# EAGLE library part FEATHERM0_LORA (library brett)
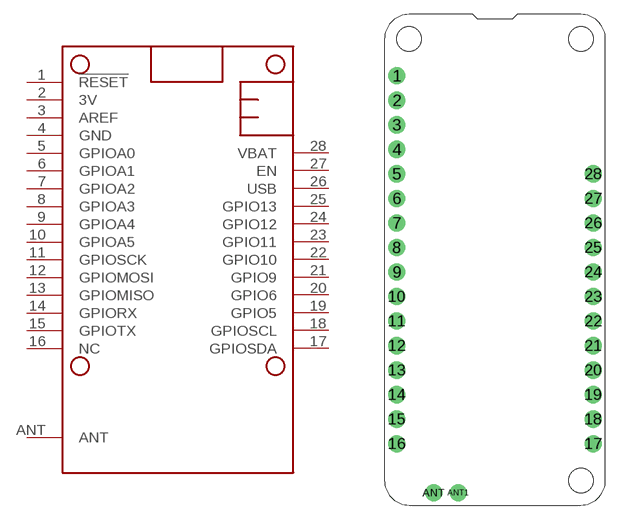
[diagram p2: symbol with the pads of FEATHERM0_LORA; footprint FEATHERM0_LORA]

Designator prefix -

## FEATHERM0_LORA  [FEATHERM0_LORA]
1  !RESET  in
2  3V  sup
3  AREF  pas
4  GND  pwr
5  GPIOA0
6  GPIOA1
7  GPIOA2
8  GPIOA3
9  GPIOA4
10  GPIOA5
11  GPIOSCK
12  GPIOMOSI
13  GPIOMISO
14  GPIORX
15  GPIOTX
16  NC  pas
17  GPIOSDA
18  GPIOSCL
19  GPIO5
20  GPIO6
21  GPIO9
22  GPIO10
23  GPIO11
24  GPIO12
25  GPIO13
26  USB  sup
27  EN  pas
28  VBAT  sup
ANT  ANT

## Footprint FEATHERM0_LORA (pad centres in mm)
drill 1 pad 1.778: 1 -10.16,19.05; 2 -10.16,16.51; 3 -10.16,13.97; 4 -10.16,11.43; 5 -10.16,8.89; 6 -10.16,6.35; 7 -10.16,3.81; 8 -10.16,1.27; 9 -10.16,-1.27; 10 -10.16,-3.81; 11 -10.16,-6.35; 12 -10.16,-8.89; 13 -10.16,-11.43; 14 -10.16,-13.97; 15 -10.16,-16.51; 16 -10.16,-19.05; 17 10.16,-19.05; 18 10.16,-16.51; 19 10.16,-13.97; 20 10.16,-11.43; 21 10.16,-8.89; 22 10.16,-6.35; 23 10.16,-3.81; 24 10.16,-1.27; 25 10.16,1.27; 26 10.16,3.81; 27 10.16,6.35; 28 10.16,8.89; ANT -6.35,-24.13; ANT1 -3.81,-24.13
hole 2.54 at 8.89,-22.86
hole 2.54 at 8.89,22.86
hole 2.54 at -8.89,22.86